# Altium footprint library 12M_XTAL.PcbLib: 1 footprints
Each footprint in its own frame and in the unit in brackets; x right, y up, seen from the top. Pads: shape width x height; smd on the part's side, far side on the other; paste and mask are expansions set on the pad; w line width, h text height; cw(c..) or ccw(c..) is an arc to the next point about the centre after c.
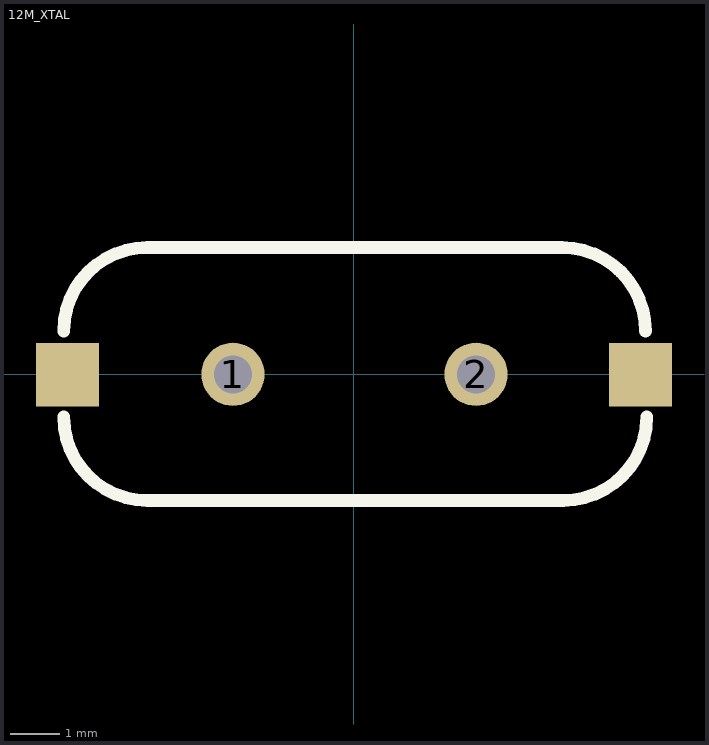
[diagram p0: the footprint, top view; thin cyan lines are the x and y axes]

## 12M_XTAL [mm] "晶振"
pads (4):
  round 1.27 hole 0.762: 1(-2.43,0.003) 2(2.45,0.003)
  rect 1.27x1.27 smd: ""(-5.75,-0.002) ""(5.75,-0.002)
Top Overlay:
  lines w0.254: -5.825,-0.852 ccw(c-4.15,-0.852) -4.15,-2.527 4.2,-2.527 ccw(c4.2,-0.852) 5.875,-0.852 ; -5.825,0.873 cw(c-4.15,0.873) -4.15,2.548 4.175,2.548 cw(c4.175,0.873) 5.85,0.873